# Altium footprint library axsem_antenna_v1-2.PCBLIB: 5 footprints
Each footprint in its own frame and in the unit in brackets; x right, y up, seen from the top. Pads: shape width x height; smd on the part's side, far side on the other; paste and mask are expansions set on the pad; w line width, h text height; cw(c..) or ccw(c..) is an arc to the next point about the centre after c.
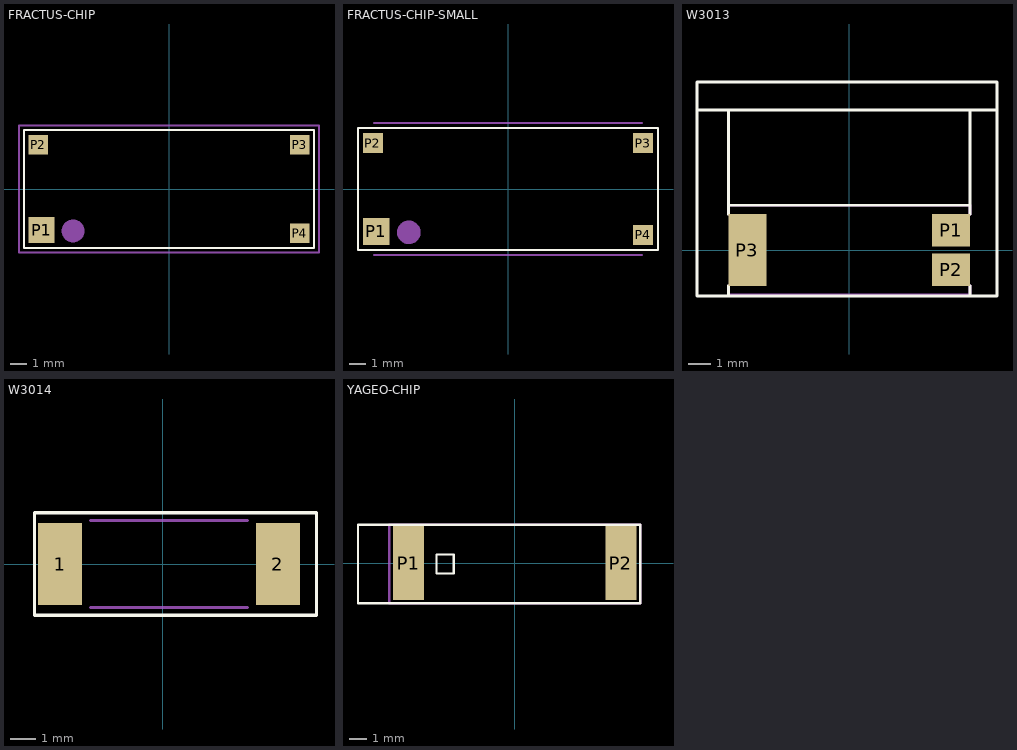
[diagram p0: the footprints below, top view; thin cyan lines are the x and y axes]

## FRACTUS-CHIP [mm]
pads (4):
  rect 1.6x1.6 smd: P1(-7.9,-2.55)
  rect 1.2x1.2 smd: P2(-8.1,2.75) P3(8.1,2.75) P4(8.1,-2.75)
Top Overlay:
  lines w0.127: -9,-3.65 9,-3.65 9,3.65 -9,3.65 -9,-3.65
Mechanical 16:
  circle w0.813: c-5.95,-2.6 r0.3
  lines w0.127: -9.3,-3.95 9.3,-3.95 9.3,3.95 -9.3,3.95 -9.3,-3.95

## FRACTUS-CHIP-SMALL [mm]
pads (4):
  rect 1.6x1.6 smd: P1(-7.9,-2.55)
  rect 1.2x1.2 smd: P2(-8.1,2.75) P3(8.1,2.75) P4(8.1,-2.75)
Top Overlay:
  lines w0.127: -9,-3.65 9,-3.65 9,3.65 -9,3.65 -9,-3.65
Mechanical 16:
  circle w0.813: c-5.95,-2.6 r0.3
  lines w0.127: -8.03,-3.95 8.03,-3.95 ; -8.03,3.95 8.03,3.95

## W3013 [mm]
pads (3):
  rect 1.7x1.45 smd: P1(4.55,0.875) P2(4.55,-0.875)
  rect 1.7x3.2 smd: P3(-4.55,0)
Top Overlay:
  lines w0.127: -5.45,-2.05 -6.8,-2.05 -6.8,6.25 ; -5.4,-2.05 5.4,-2.05 ; -5.4,-2 -5.4,-1.6 ; -5.4,1.6 -5.4,2 ; 5.4,-1.6 5.4,-2.05 ; 5.4,1.6 5.4,2 ; -6.8,6.25 -5.4,6.25 ; -6.8,6.25 -6.8,7.5 6.6,7.5 6.6,6.25 ; -5.4,2 -5.4,6.25 ; -5.4,2 5.4,2 ; -5.4,6.25 5.4,6.25 ; 5.4,-2.05 6.6,-2.05 6.6,6.25 ; 5.4,2 5.4,6.25 ; 5.4,6.25 6.6,6.25
Mechanical 16:
  lines w0.127: -5.4,-1.6 -5.4,-2 5.4,-2 5.4,-1.6 ; -5.4,1.6 -5.4,2 5.4,2 5.4,1.6

## W3014 [mm]
pads (2):
  rect 1.7x3.2 smd: 1(-4,0) 2(4.5,0)
Top Overlay:
  lines w0.127: -5,-2 -5,2 6,2 6,-2 -5,-2
Mechanical 16:
  lines w0.127: -2.8,-1.7 3.3,-1.7 ; -2.8,1.7 3.3,1.7

## YAGEO-CHIP [mm]
pads (2):
  rect 1.8x4.25 smd: P1(-6.1,0) P2(6.1,0)
Top Overlay:
  lines w0.127: -9,-2.3 7.2,-2.3 7.2,2.2 -9,2.2 -9,-2.3 ; -4.5,-0.6 -4.5,0.5 -3.5,0.5 -3.5,-0.6 -4.5,-0.6
Mechanical 16:
  lines w0.127: -7.2,-2.3 7.2,-2.3 7.2,2.2 -7.2,2.2 -7.2,-2.2